# EAGLE library part NJM111000F1 (library IC)
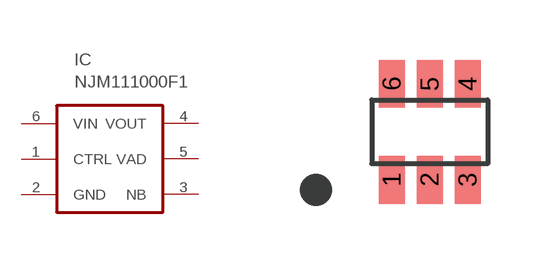
[diagram p9: symbol with the pads of SOT23-6-0.95; footprint SOT23-6-0.95]

Designator prefix IC

## NJM111000F1  [SOT23-6-0.95]
1  CTRL  in
2  GND  pwr
3  NB  out
4  VOUT  out
5  VAD  in
6  VIN  pwr

## Footprint SOT23-6-0.95 (pad centres in mm)
smd 0.65 x 1.2: 1 -0.95,-1.2; 2 0,-1.2; 3 0.95,-1.2; 4 0.95,1.2; 5 0,1.2; 6 -0.95,1.2